# Altium schematic symbol library Passifs.SchLib: 18 symbols
Pins are listed as number, name and electrical type; pins without a type are passive.

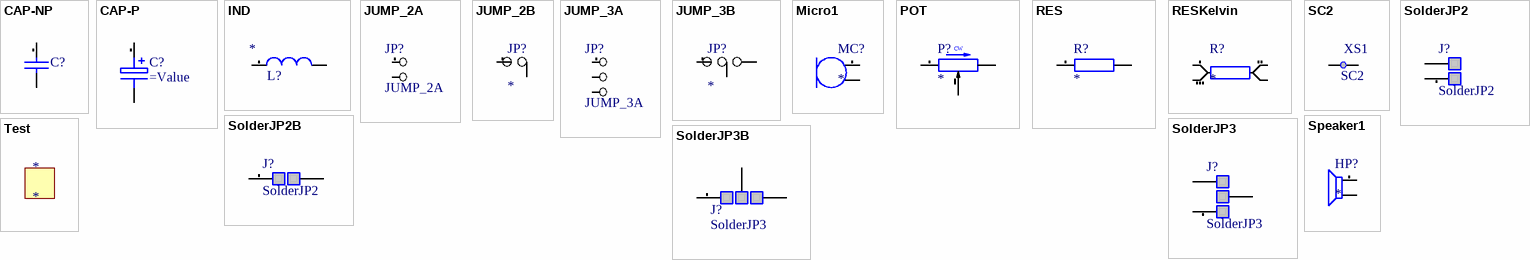
[diagram p0: symbols CAP-NP to Test]

## CAP-NP
designator C?
Capacitor
pins: 1, 2

## CAP-P
designator C?
Capacitor, polarized; ACORT: Normal->Alternate 1
pins: 1 +, 2 -
1 alternate drawing of the same symbol

## IND
designator L?
Inductor
pins: 1, 2

## JUMP_2A
designator JP?
footprint SIL100-2
footprint SIL150-2
pins: 1, 2

## JUMP_2B
designator JP?
footprint SIL100-2 (Footprint not found)
pins: 1, 2

## JUMP_3A
designator JP?
footprint SIL100-3
pins: 1, 2, 3

## JUMP_3B
designator JP?
footprint SIL100-3
pins: 1, 2, 3

## Micro1
designator MC?
pins: 1, 2

## POT
designator P?
Potentiometer
pins: 1, 2, 3
text: CW

## RES
designator R?
Resistor
pins: 1, 2

## RESKelvin
designator R?
Resistor
pins: 1, 2, 3, 4

## SC2
designator XS1  (net tie, no BOM)
Short Circuit 2 Connections
footprint SC2 (Short Circuit 2 Connections)
footprint SC2_TH (Short Circuit 2 Connections top-bottom)
footprint CC_SC2 (Short Circuit 2 Connections)
pins: 1, 2

## SolderJP2
designator J?  (no BOM)
Solder Jump 2 pins
pins: 1, 2
1 alternate drawing of the same symbol

## SolderJP2B
designator J?, comment SolderJP2  (no BOM)
Solder Jump 2 pins
pins: 1, 2

## SolderJP3
designator J?  (no BOM)
Solder Jump 3 pins
pins: 1, 2, 3

## SolderJP3B
designator J?, comment SolderJP3  (no BOM)
Solder Jump 3 pins
pins: 1, 2, 3

## Speaker1
designator HP?
pins: 1, 2

## Test
designator *
pins: 1 hidden